# Altium schematic symbol library SCH - AMPLIFIER DIFFERENTIAL - AMC3330DWE.SchLib: 1 symbol
Pins are listed as number, name and electrical type; pins without a type are passive.

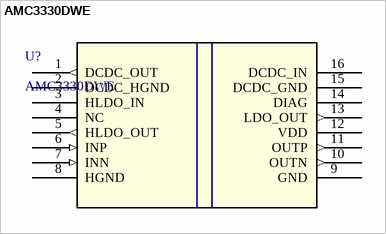
[diagram p0: symbol AMC3330DWE]

## AMC3330DWE
designator U?
Â±1-V input, precision voltage sensing reinforced isolated amplifier with integrated DC/DC 16-SOIC -40 to 125
pins: 1 DCDC_OUT (out), 2 DCDC_HGND (power), 3 HLDO_IN, 4 NC, 5 HLDO_OUT (out), 6 INP (in), 7 INN (in), 8 HGND (power), 9 GND (power), 10 OUTN (out), 11 OUTP (out), 12 VDD (power), 13 LDO_OUT (out), 14 DIAG, 15 DCDC_GND (power), 16 DCDC_IN